# Altium footprint library Jump.PcbLib: 81 footprints (part 4 of 6)
Each footprint in its own frame and in the unit in brackets; x right, y up, seen from the top. Pads: shape width x height; smd on the part's side, far side on the other; paste and mask are expansions set on the pad; w line width, h text height; cw(c..) or ccw(c..) is an arc to the next point about the centre after c.
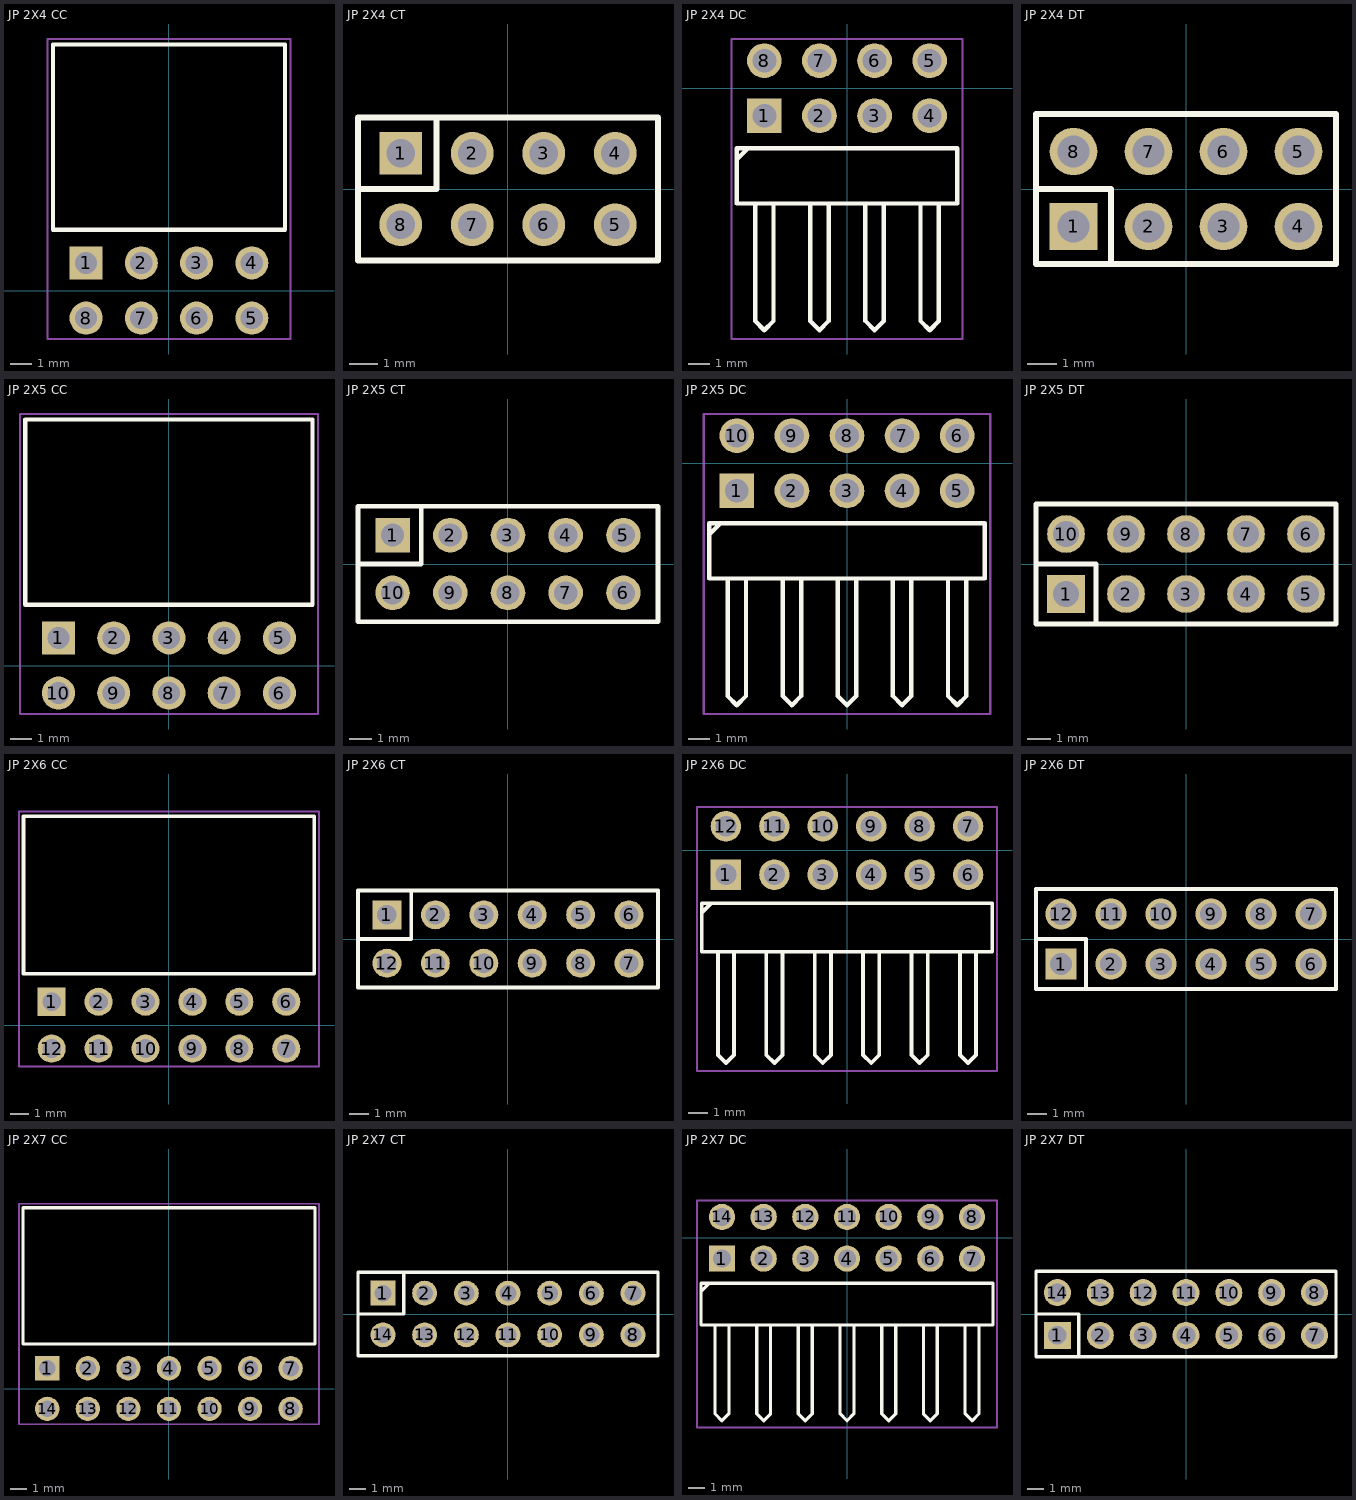
[diagram p3: the footprints below, top view; thin cyan lines are the x and y axes]

## JP 2X4 CC [mm] "08p 2 rows Right angle"
height 5.08
pads (8):
  rect 1.52x1.52 hole 1.02: 1(-3.81,1.27)
  round 1.52 hole 1.02: 2(-1.27,1.27) 3(1.27,1.27) 4(3.81,1.27) 5(3.81,-1.27) 6(1.27,-1.27) 7(-1.27,-1.27) 8(-3.81,-1.27)
Top Overlay:
  lines w0.2: -5.334,2.794 5.334,2.794 5.334,11.316 -5.334,11.316 -5.334,2.794
Mechanical 15:
  lines w0.1: -5.58,-2.23 -5.58,11.566 5.584,11.566 5.584,-2.23 -5.58,-2.23
3D body "613008243121.stp": height 5.09, standoff -4.46, extent -5.33,-1.524 5.33,11.316

## JP 2X4 CT [mm] "8 pins, dual row, straight, gold plating"
height 8.5
pads (8):
  rect 1.52x1.52 hole 1.02: 1(-3.81,1.27)
  round 1.52 hole 1.02: 2(-1.27,1.27) 3(1.27,1.27) 4(3.81,1.27) 5(3.81,-1.27) 6(1.27,-1.27) 7(-1.27,-1.27) 8(-3.81,-1.27)
Top Overlay:
  lines w0.2: -5.33,0 -2.54,0 -2.54,2.54 ; -5.33,-2.54 5.33,-2.54 5.33,2.54 -5.33,2.54 -5.33,-2.54
3D body "61300821821.stp": height 8.51, standoff -3.09, extent -5.33,-2.54 5.33,2.54

## JP 2X4 DC [mm] "08 pins, dual row, right angled, gold plating"
height 5.08
pads (8):
  rect 1.6x1.6 hole 1.1: 1(-3.81,-1.27)
  round 1.6 hole 1.1: 2(-1.27,-1.27) 3(1.27,-1.27) 4(3.81,-1.27) 5(3.81,1.27) 6(1.27,1.27) 7(-1.27,1.27) 8(-3.81,1.27)
Top Overlay:
  lines w0.2: -5.038,-3.236 -4.614,-2.812 ; -4.233,-5.335 -4.233,-10.729 -3.81,-11.152 -3.387,-10.729 -3.387,-5.31 ; -1.693,-5.335 -1.693,-10.729 -1.27,-11.152 -0.847,-10.729 -0.847,-5.335 ; 0.847,-5.335 0.847,-10.729 1.27,-11.152 1.693,-10.729 1.693,-5.31 ; 3.387,-5.335 3.387,-10.729 3.81,-11.152 4.233,-10.729 4.233,-5.335 ; -5.08,-5.31 5.08,-5.31 5.08,-2.77 -5.08,-2.77 -5.08,-5.31
Mechanical 15:
  lines w0.1: -5.33,-11.56 -5.33,2.27 5.33,2.27 5.33,-11.56 -5.33,-11.56
3D body "61300821021.stp": height 5.09, standoff -2.99, extent -5.08,-11.334 5.08,1.566

## JP 2X4 DT [mm]
height 8.54
pads (8):
  rect 1.61x1.6 hole 1.1: 1(-3.81,-1.27)
  oval 1.61x1.6 hole 1.1: 2(-1.27,-1.27) 3(1.27,-1.27) 4(3.81,-1.27) 5(3.81,1.27) 6(1.27,1.27) 7(-1.27,1.27) 8(-3.81,1.27)
Top Overlay:
  lines w0.2: -5.08,0 -2.54,0 -2.54,-2.54 ; -5.08,-2.54 -5.08,2.54 5.08,2.54 5.08,-2.54 -5.08,-2.54
3D body "61300821121.stp": height 8.55, standoff -2.99, extent -5.08,-2.54 5.08,2.54

## JP 2X5 CC [mm] "10p 2 rows Right angle"
height 5.08
pads (10):
  rect 1.52x1.52 hole 1.02: 1(-5.08,1.27)
  round 1.52 hole 1.02: 2(-2.54,1.27) 3(0,1.27) 4(2.54,1.27) 5(5.08,1.27) 6(5.08,-1.27) 7(2.54,-1.27) 8(0,-1.27) 9(-2.54,-1.27) 10(-5.08,-1.27)
Top Overlay:
  lines w0.2: -6.604,2.794 6.604,2.794 6.604,11.316 -6.604,11.316 -6.604,2.794
Mechanical 15:
  lines w0.1: -6.85,-2.23 -6.85,11.566 6.854,11.566 6.854,-2.23 -6.85,-2.23
3D body "613010243121.stp": height 5.09, standoff -4.46, extent -6.6,-1.478 6.6,11.362

## JP 2X5 CT [mm] "10 pins, dual row, straight, gold plating"
height 8.5
pads (10):
  rect 1.52x1.52 hole 1.02: 1(-5.08,1.27)
  round 1.52 hole 1.02: 2(-2.54,1.27) 3(0,1.27) 4(2.54,1.27) 5(5.08,1.27) 6(5.08,-1.27) 7(2.54,-1.27) 8(0,-1.27) 9(-2.54,-1.27) 10(-5.08,-1.27)
Top Overlay:
  lines w0.2: -6.6,0 -3.81,0 -3.81,2.54 ; -6.6,-2.54 -6.6,2.54 6.6,2.54 6.6,-2.54 -1.27,-2.54 -6.6,-2.54
3D body "61301021821.stp": height 8.51, standoff -3.09, extent -6.6,-2.54 6.6,2.54

## JP 2X5 DC [mm] "10 pins, dual row, right angled, gold plating"
height 5.08
pads (10):
  rect 1.6x1.6 hole 1.1: 1(-5.08,-1.27)
  round 1.6 hole 1.1: 2(-2.54,-1.27) 3(0,-1.27) 4(2.54,-1.27) 5(5.08,-1.27) 6(5.08,1.27) 7(2.54,1.27) 8(0,1.27) 9(-2.54,1.27) 10(-5.08,1.27)
Top Overlay:
  lines w0.2: -6.308,-3.236 -5.884,-2.812 ; -5.503,-5.335 -5.503,-10.729 -5.08,-11.152 -4.657,-10.729 -4.657,-5.31 ; -2.963,-5.335 -2.963,-10.729 -2.54,-11.152 -2.117,-10.729 -2.117,-5.335 ; -0.423,-5.335 -0.423,-10.729 0,-11.152 0.423,-10.729 0.423,-5.31 ; 2.117,-5.335 2.117,-10.729 2.54,-11.152 2.963,-10.729 2.963,-5.335 ; 4.657,-5.335 4.657,-10.729 5.08,-11.152 5.503,-10.729 5.503,-5.31 ; -6.35,-5.31 -6.35,-2.77 6.35,-2.77 6.35,-5.31 -6.35,-5.31
Mechanical 15:
  lines w0.1: -6.6,-11.56 6.6,-11.56 6.6,2.27 -6.6,2.27 -6.6,-11.56
3D body "61301021021.stp": height 5.09, standoff -2.99, extent -6.35,-11.334 6.35,1.566

## JP 2X5 DT [mm] "10 pins, dual pin, straight, gold plating"
height 8.54
pads (10):
  rect 1.6x1.6 hole 1.1: 1(-5.08,-1.27)
  round 1.6 hole 1.1: 2(-2.54,-1.27) 3(0,-1.27) 4(2.54,-1.27) 5(5.08,-1.27) 6(5.08,1.27) 7(2.54,1.27) 8(0,1.27) 9(-2.54,1.27) 10(-5.08,1.27)
Top Overlay:
  lines w0.2: -6.35,0 -3.81,0 -3.81,-2.54 ; -6.35,-2.54 -6.35,2.54 -1.27,2.54 6.35,2.54 6.35,-2.54 -6.35,-2.54
3D body "61301021121.stp": height 8.55, standoff -2.99, extent -6.35,-2.54 6.35,2.54

## JP 2X6 CC [mm] "12p 2 rows Right angle"
height 5.08
pads (12):
  rect 1.52x1.52 hole 1.02: 1(-6.35,1.27)
  round 1.52 hole 1.02: 2(-3.81,1.27) 3(-1.27,1.27) 4(1.27,1.27) 5(3.81,1.27) 6(6.35,1.27) 7(6.35,-1.27) 8(3.81,-1.27) 9(1.27,-1.27) 10(-1.27,-1.27) 11(-3.81,-1.27) 12(-6.35,-1.27)
Top Overlay:
  lines w0.2: -7.874,2.794 -7.874,11.316 7.874,11.316 7.874,2.794 -7.874,2.794
Mechanical 15:
  lines w0.1: -8.12,-2.23 -8.12,11.566 8.124,11.566 8.124,-2.23 -8.12,-2.23
3D body "613012243121.stp": height 5.09, standoff -4.46, extent -7.87,-1.478 7.87,11.362

## JP 2X6 CT [mm] "12 pins, dual row, straight, gold plating"
height 8.5
pads (12):
  rect 1.52x1.52 hole 1.02: 1(-6.35,1.27)
  round 1.52 hole 1.02: 2(-3.81,1.27) 3(-1.27,1.27) 4(1.27,1.27) 5(3.81,1.27) 6(6.35,1.27) 7(6.35,-1.27) 8(3.81,-1.27) 9(1.27,-1.27) 10(-1.27,-1.27) 11(-3.81,-1.27) 12(-6.35,-1.27)
Top Overlay:
  lines w0.2: -7.87,0 -5.08,0 -5.08,2.54 ; -7.87,-2.54 -7.87,2.54 7.87,2.54 7.87,-2.54 -7.87,-2.54
3D body "61301221821.stp": height 8.51, standoff -3.09, extent -7.87,-2.54 7.87,2.54

## JP 2X6 DC [mm] "12 pins, dual row, right angled, gold plating"
height 5.08
pads (12):
  rect 1.6x1.6 hole 1.1: 1(-6.35,-1.27)
  round 1.6 hole 1.1: 2(-3.81,-1.27) 3(-1.27,-1.27) 4(1.27,-1.27) 5(3.81,-1.27) 6(6.35,-1.27) 7(6.35,1.27) 8(3.81,1.27) 9(1.27,1.27) 10(-1.27,1.27) 11(-3.81,1.27) 12(-6.35,1.27)
Top Overlay:
  lines w0.2: -7.578,-3.236 -7.154,-2.812 ; -6.773,-5.335 -6.773,-10.729 -6.35,-11.152 -5.927,-10.729 -5.927,-5.31 ; -4.233,-5.335 -4.233,-10.729 -3.81,-11.152 -3.387,-10.729 -3.387,-5.335 ; -1.693,-5.335 -1.693,-10.729 -1.27,-11.152 -0.847,-10.729 -0.847,-5.31 ; 0.847,-5.335 0.847,-10.729 1.27,-11.152 1.693,-10.729 1.693,-5.335 ; 3.387,-5.335 3.387,-10.729 3.81,-11.152 4.233,-10.729 4.233,-5.31 ; 5.927,-5.335 5.927,-10.729 6.35,-11.152 6.773,-10.729 6.773,-5.335 ; -7.62,-5.31 7.62,-5.31 7.62,-2.77 -7.62,-2.77 -7.62,-5.31
Mechanical 15:
  lines w0.1: -7.87,-11.56 -7.87,2.27 7.87,2.27 7.87,-11.56 -7.87,-11.56
3D body "61301221021.stp": height 5.09, standoff -2.99, extent -7.62,-11.334 7.62,1.566

## JP 2X6 DT [mm] "12 pins, dual pin, straight, gold plating"
height 8.54
pads (12):
  rect 1.6x1.6 hole 1.1: 1(-6.35,-1.27)
  round 1.6 hole 1.1: 2(-3.81,-1.27) 3(-1.27,-1.27) 4(1.27,-1.27) 5(3.81,-1.27) 6(6.35,-1.27) 7(6.35,1.27) 8(3.81,1.27) 9(1.27,1.27) 10(-1.27,1.27) 11(-3.81,1.27) 12(-6.35,1.27)
Top Overlay:
  lines w0.2: -7.62,0 -5.08,0 -5.08,-2.54 ; -7.62,-2.54 7.62,-2.54 7.62,2.54 -7.62,2.54 -7.62,-2.54
3D body "61301221121.stp": height 8.55, standoff -2.99, extent -7.62,-2.54 7.62,2.54

## JP 2X7 CC [mm] "14p 2 rows Right angle"
height 5.08
pads (14):
  rect 1.52x1.52 hole 1.02: 1(-7.62,1.27)
  round 1.52 hole 1.02: 2(-5.08,1.27) 3(-2.54,1.27) 4(0,1.27) 5(2.54,1.27) 6(5.08,1.27) 7(7.62,1.27) 8(7.62,-1.27) 9(5.08,-1.27) 10(2.54,-1.27) 11(0,-1.27) 12(-2.54,-1.27) 13(-5.08,-1.27) 14(-7.62,-1.27)
Top Overlay:
  lines w0.2: -9.144,2.794 9.144,2.794 9.144,11.316 -9.144,11.316 -9.144,2.794
Mechanical 15:
  lines w0.1: -9.39,-2.23 9.394,-2.23 9.394,11.566 -9.39,11.566 -9.39,-2.23
3D body "613014243121.stp": height 5.09, standoff -4.46, extent -9.14,-1.478 9.14,11.362

## JP 2X7 CT [mm] "14 pins, dual row, straight, gold plating"
height 8.5
pads (14):
  rect 1.52x1.52 hole 1.02: 1(-7.62,1.27)
  round 1.52 hole 1.02: 2(-5.08,1.27) 3(-2.54,1.27) 4(0,1.27) 5(2.54,1.27) 6(5.08,1.27) 7(7.62,1.27) 8(7.62,-1.27) 9(5.08,-1.27) 10(2.54,-1.27) 11(0,-1.27) 12(-2.54,-1.27) 13(-5.08,-1.27) 14(-7.62,-1.27)
Top Overlay:
  lines w0.2: -9.14,0 -6.35,0 -6.35,2.54 ; -9.14,-2.54 -9.14,2.54 9.14,2.54 9.14,-2.54 -9.14,-2.54
3D body "61301421821.stp": height 8.51, standoff -3.09, extent -9.14,-2.54 9.14,2.54

## JP 2X7 DC [mm] "14 pins, dual row, right angled, gold plating"
height 5.08
pads (14):
  rect 1.6x1.6 hole 1.1: 1(-7.62,-1.27)
  round 1.6 hole 1.1: 2(-5.08,-1.27) 3(-2.54,-1.27) 4(0,-1.27) 5(2.54,-1.27) 6(5.08,-1.27) 7(7.62,-1.27) 8(7.62,1.27) 9(5.08,1.27) 10(2.54,1.27) 11(0,1.27) 12(-2.54,1.27) 13(-5.08,1.27) 14(-7.62,1.27)
Top Overlay:
  lines w0.2: -8.848,-3.236 -8.424,-2.812 ; -8.043,-5.335 -8.043,-10.729 -7.62,-11.152 -7.197,-10.729 -7.197,-5.31 ; -5.503,-5.335 -5.503,-10.729 -5.08,-11.152 -4.657,-10.729 -4.657,-5.335 ; -2.963,-5.335 -2.963,-10.729 -2.54,-11.152 -2.117,-10.729 -2.117,-5.31 ; -0.423,-5.335 -0.423,-10.729 0,-11.152 0.423,-10.729 0.423,-5.335 ; 2.117,-5.335 2.117,-10.729 2.54,-11.152 2.963,-10.729 2.963,-5.31 ; 4.657,-5.335 4.657,-10.729 5.08,-11.152 5.503,-10.729 5.503,-5.335 ; 7.197,-5.335 7.197,-10.729 7.62,-11.152 8.043,-10.729 8.043,-5.31 ; -8.89,-5.31 -8.89,-2.77 8.89,-2.77 8.89,-5.31 -8.89,-5.31
Mechanical 15:
  lines w0.1: -9.14,-11.56 9.14,-11.56 9.14,2.27 -9.14,2.27 -9.14,-11.56
3D body "61301421021.stp": height 5.09, standoff -2.99, extent -8.89,-11.334 8.89,1.566

## JP 2X7 DT [mm] "14 pins, dual pin, straight, gold plating"
height 8.54
pads (14):
  rect 1.6x1.6 hole 1.1: 1(-7.62,-1.27)
  round 1.6 hole 1.1: 2(-5.08,-1.27) 3(-2.54,-1.27) 4(0,-1.27) 5(2.54,-1.27) 6(5.08,-1.27) 7(7.62,-1.27) 8(7.62,1.27) 9(5.08,1.27) 10(2.54,1.27) 11(0,1.27) 12(-2.54,1.27) 13(-5.08,1.27) 14(-7.62,1.27)
Top Overlay:
  lines w0.2: -8.89,0 -6.35,0 -6.35,-2.54 ; -8.89,-2.54 8.89,-2.54 8.89,2.54 -8.89,2.54 -8.89,-2.54
3D body "61301421121.stp": height 8.55, standoff -2.99, extent -8.89,-2.54 8.89,2.54